# EAGLE library part MOLEX_10_0430451209 (library stepOSP)
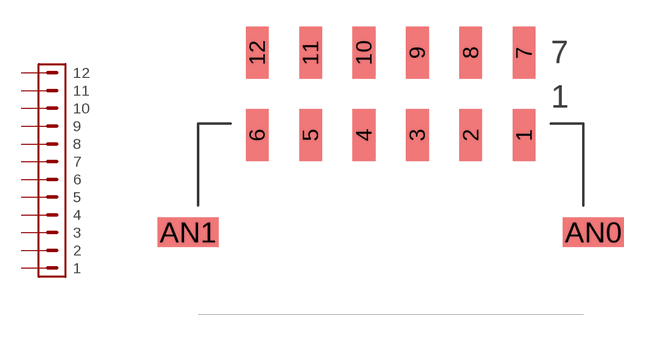
[diagram p54: symbol with the pads of MOLEX_12_0430451209; footprint MOLEX_12_0430451209]

Designator prefix -

## MOLEX_10_0430451209  [MOLEX_12_0430451209]
1  1
2  2
3  3
4  4
5  5
6  6
7  7
8  8
9  9
10  10
11  11
12  12

## Footprint MOLEX_12_0430451209 (pad centres in mm)
smd 1.27 x 2.92: 1 7.5,5.47; 2 4.5,5.47; 3 1.5,5.47; 4 -1.5,5.47; 5 -4.5,5.47; 6 -7.5,5.47; 7 7.5,10.1; 8 4.5,10.1; 9 1.5,10.1; 10 -1.5,10.1; 11 -4.5,10.1; 12 -7.5,10.1
smd 3.43 x 1.65: AN0 11.385,0; AN1 -11.384,0